# EAGLE library part 615024143921 (library 615008185221_Eagle_WR-MJ_rev20b)
WR-MJ Modular Jack THT Horizontal Plastic 4Port 6P6C Tab Up Kind Properties Quality Class:500 Mating cycles General Information Operating Temperature:-40 up to +85 °C Compliance:RoHS Electrical Properties IR 1:1.5A Working Voltage:120V (AC) Withstanding Voltage:1000V (AC) Contact Resistance:20mΩ RISO:500 MΩ Material Properties Insulator MateriaL:PBT Insulator Flammability Rating:UL94 V-0 Color:Black Contact Material Copper Alloy Contact Plating:Gold Contact Type:Stamped Shielding Material:Bronze Shielding Plating:Nickel Packaging Properties Packaging:Tray <https://www.we-online.com/catalog/media/o33144v209%20Family_WR-MJ_615024143921.jpg> Details see: https://www.we-online.com/catalog/en/MJ_THT_HORIZONTAL_PLASTIC_4_PORT_6P6C_TAB_UP/ Updated by Yingchun,Shan 2020-01-07 2020 (C) Würth Elektronik
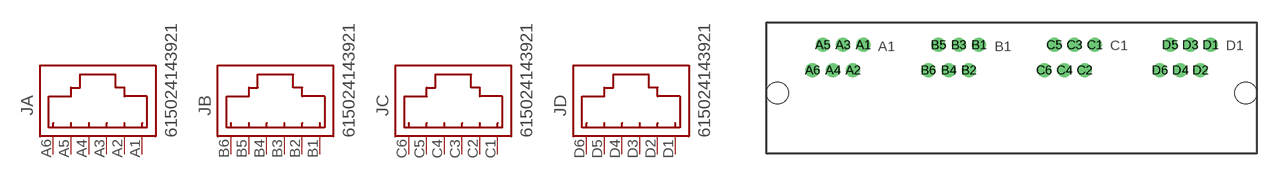
[diagram p31: symbol with the pads of 615024143921; footprint 615024143921]

Designator prefix J; gates A=6P6C B=6P6C C=6P6C D=6P6C

## 615024143921 (DATASHEET-URL: https://www.we-online.com/catalog/datasheet/615024143921.pdf; MOUNT: THT; PART-NUMBER: 615024143921; TYPE: Horizontal; VALUE: 615024143921; XPXC: 6P6C)  [615024143921]
A1  A:1  pas
A2  A:2  pas
A3  A:3  pas
A4  A:4  pas
A5  A:5  pas
A6  A:6  pas
B1  B:1  pas
B2  B:2  pas
B3  B:3  pas
B4  B:4  pas
B5  B:5  pas
B6  B:6  pas
C1  C:1  pas
C2  C:2  pas
C3  C:3  pas
C4  C:4  pas
C5  C:5  pas
C6  C:6  pas
D1  D:1  pas
D2  D:2  pas
D3  D:3  pas
D4  D:4  pas
D5  D:5  pas
D6  D:6  pas

## Footprint 615024143921 (pad centres in mm)
WR-MJ Horizontal Plastic 4 Port 6P6C Modular Jack Tab Up, 24 pins
drill 0.9: A1 -14.925,4.34; A2 -15.945,1.8; A3 -16.965,4.34; A4 -17.985,1.8; A5 -19.005,4.34; A6 -20.025,1.8; B1 -3.275,4.34; B2 -4.295,1.8; B3 -5.315,4.34; B4 -6.335,1.8; B5 -7.355,4.34; B6 -8.375,1.8; C1 8.375,4.34; C2 7.355,1.8; C3 6.335,4.34; C4 5.315,1.8; C5 4.295,4.34; C6 3.275,1.8; D1 20.025,4.34; D2 19.005,1.8; D3 17.985,4.34; D4 16.965,1.8; D5 15.945,4.34; D6 14.925,1.8
hole 2.2 at -23.55,-0.5
hole 2.2 at 23.55,-0.5